# Altium integrated library Maxim Communication Transceiver.IntLib: 302 symbols (part 1 of 7)
Pins are listed as number, name and electrical type; pins without a type are passive.

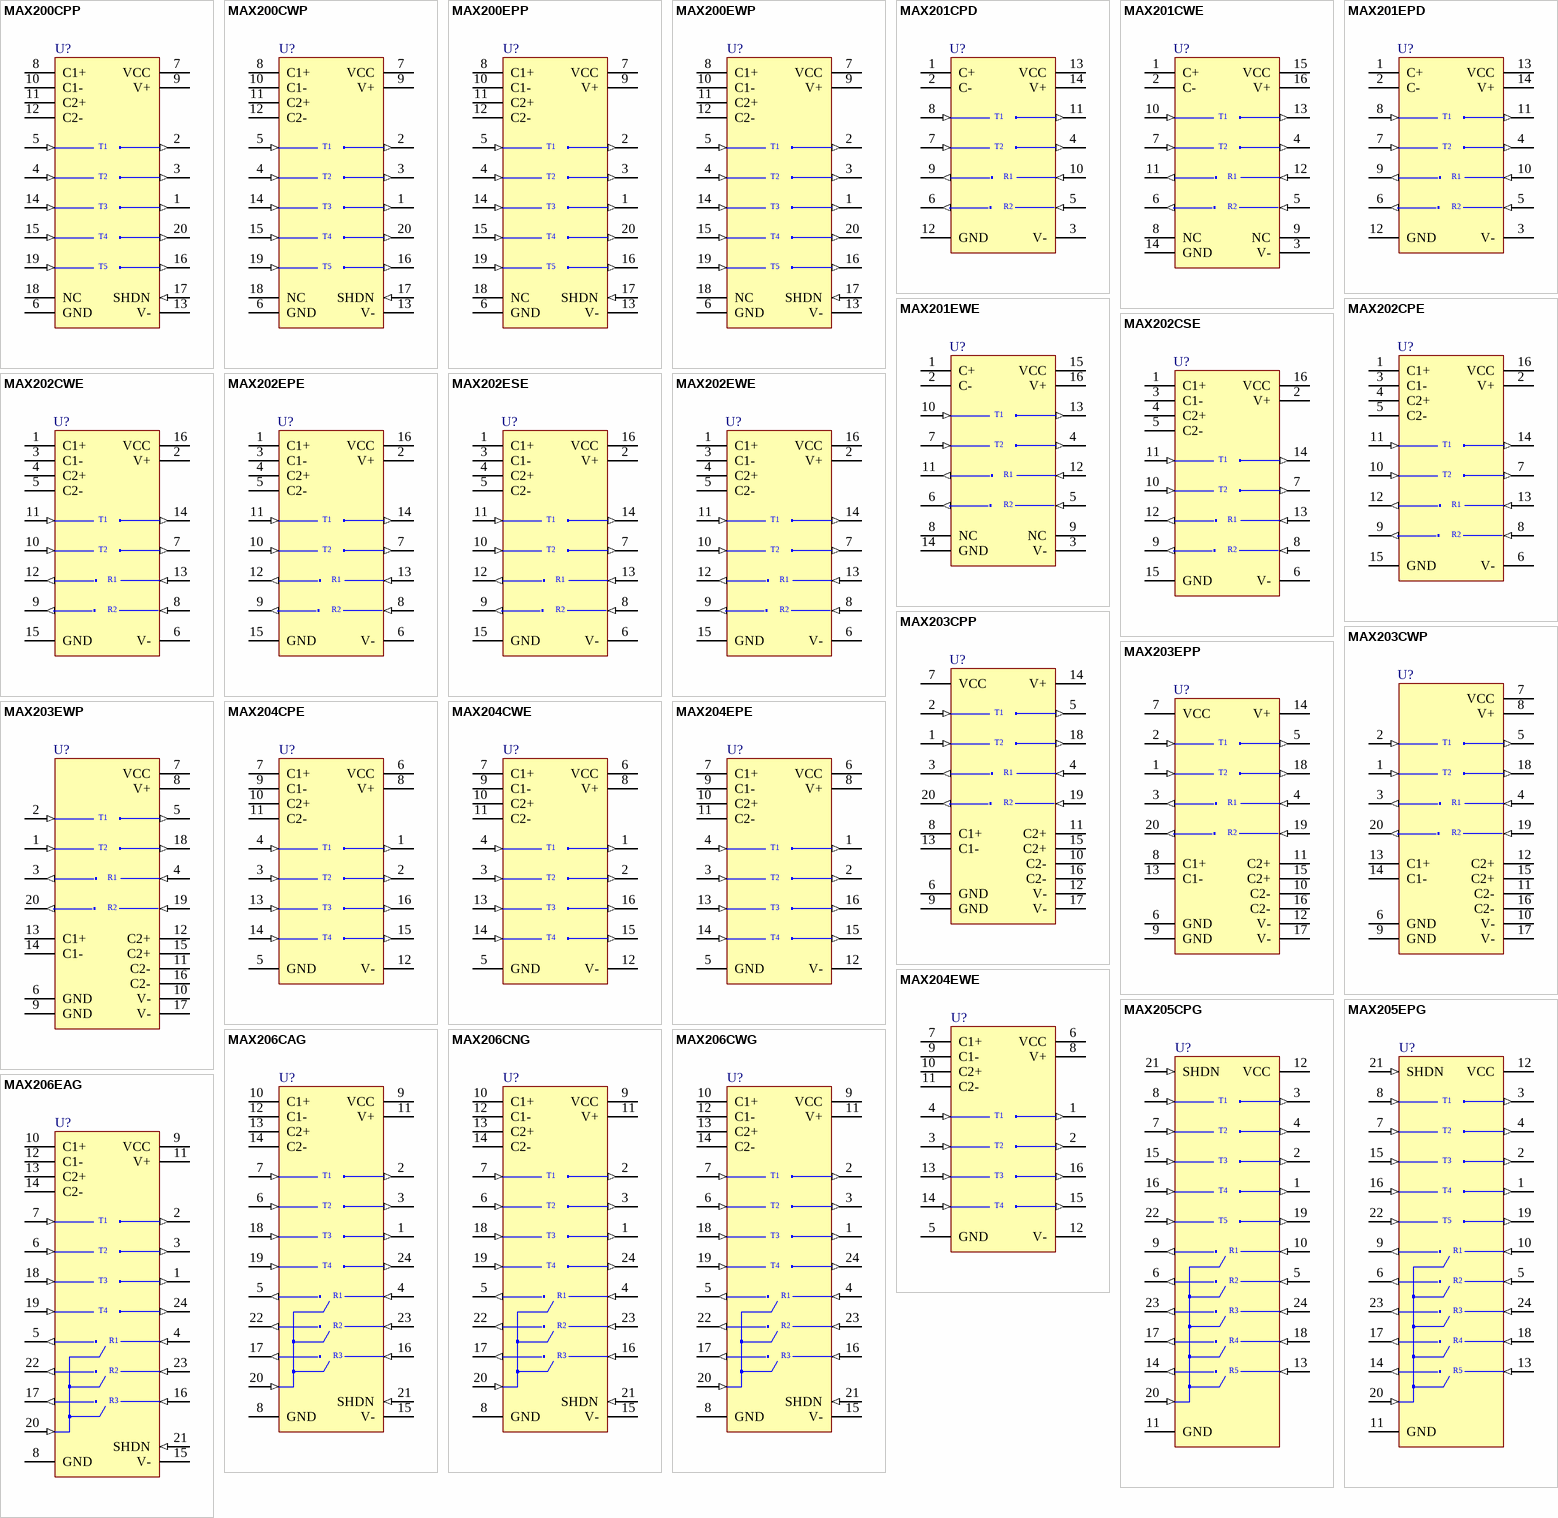
[diagram p0: symbols MAX200CPP to MAX206EAG]

## MAX200CPP
designator U?
+5V RS-232 Transceiver with 0.1µF External Capacitor; Published: 16-Jan-2001; LatestRevisionDate: 29-May-2009; LatestRevisionNote: Component Body Added.; DatasheetVersion: Dec-1996; PackageVersion: RevB, 21-0043; PackageReference: PP20; Publisher: Altium Limited; PackageDescription: DIP, 20-Pin, Row Spacing 7.62 mm, Pitch 2.54 mm; Code_JEDEC: MS-001-AE; ComponentLink1Description: Manufacturer Link; ComponentLink1URL: http://www.maxim-ic.com/; ComponentLink2Description: Datasheet; ComponentLink2URL: http://pdfserv.maxim-ic.com/en/ds/MAX200-MAX213.pdf
footprint PP20 (DIP, 20-Leads, Row Spacing 7.62mm, Pitch 2.54mm, Body 26.16x7.24mm)
3D model PP20 (DIP, 20-Pin, Row Spacing 7.62 mm, Pitch 2.54 mm)
pins: 1 T3OUT (out), 2 T1OUT (out), 3 T2OUT (out), 4 T2IN (in), 5 T1IN (in), 6 GND (power), 7 VCC (power), 8 C1+, 9 V+ (power), 10 C1-, 11 C2+, 12 C2-, 13 V- (power), 14 T3IN (in), 15 T4IN (in), 16 T5OUT (out), 17 SHDN (in), 18 NC, 19 T5IN (in), 20 T4OUT (out)
text: T1; T2; T3; T4; T5

## MAX200CWP
designator U?
+5V RS-232 Transceiver with 0.1µF External Capacitor; Published: 16-Jan-2001; LatestRevisionDate: 13-Apr-2006; LatestRevisionNote: IPC-7351 Footprint Added.; DatasheetVersion: Dec-1996; PackageReference: WSO20; Publisher: Altium Limited; PackageDescription: 20-Pin Small Outline Integrated Circuit 1.27 mm Pitch; Code_JEDEC: MS-013-AC; Code_IPC: SOIC127P1030-20; ComponentLink1Description: Manufacturer Link; ComponentLink1URL: http://www.maxim-ic.com/; ComponentLink2Description: Datasheet; ComponentLink2URL: http://pdfserv.maxim-ic.com/en/ds/MAX200-MAX213.pdf
footprint WSO20_N (SOIC, 20-Leads, Body 12.8x7.5mm, Pitch 1.27mm, IPC Medium Density)
footprint WSO20_L (SOIC, 20-Leads, Body 12.8x7.5mm, Pitch 1.27mm, IPC High Density)
footprint WSO20_M (SOIC, 20-Leads, Body 12.8x7.5mm, Pitch 1.27mm, IPC Low Density)
3D model WSO20 (20-Pin Small Outline Integrated Circuit 1.27 mm Pitch)
pins: 1 T3OUT (out), 2 T1OUT (out), 3 T2OUT (out), 4 T2IN (in), 5 T1IN (in), 6 GND (power), 7 VCC (power), 8 C1+, 9 V+ (power), 10 C1-, 11 C2+, 12 C2-, 13 V- (power), 14 T3IN (in), 15 T4IN (in), 16 T5OUT (out), 17 SHDN (in), 18 NC, 19 T5IN (in), 20 T4OUT (out)
text: T1; T2; T3; T4; T5

## MAX200EPP
designator U?
+5V RS-232 Transceiver with 0.1µF External Capacitor; Published: 16-Jan-2001; LatestRevisionDate: 29-May-2009; LatestRevisionNote: Component Body Added.; DatasheetVersion: Dec-1996; PackageVersion: RevB, 21-0043; PackageReference: PP20; Publisher: Altium Limited; PackageDescription: DIP, 20-Pin, Row Spacing 7.62 mm, Pitch 2.54 mm; Code_JEDEC: MS-001-AE; ComponentLink1Description: Manufacturer Link; ComponentLink1URL: http://www.maxim-ic.com/; ComponentLink2Description: Datasheet; ComponentLink2URL: http://pdfserv.maxim-ic.com/en/ds/MAX200-MAX213.pdf
footprint PP20 (DIP, 20-Leads, Row Spacing 7.62mm, Pitch 2.54mm, Body 26.16x7.24mm)
3D model PP20 (DIP, 20-Pin, Row Spacing 7.62 mm, Pitch 2.54 mm)
pins: 1 T3OUT (out), 2 T1OUT (out), 3 T2OUT (out), 4 T2IN (in), 5 T1IN (in), 6 GND (power), 7 VCC (power), 8 C1+, 9 V+ (power), 10 C1-, 11 C2+, 12 C2-, 13 V- (power), 14 T3IN (in), 15 T4IN (in), 16 T5OUT (out), 17 SHDN (in), 18 NC, 19 T5IN (in), 20 T4OUT (out)
text: T1; T2; T3; T4; T5

## MAX200EWP
designator U?
+5V RS-232 Transceiver with 0.1µF External Capacitor; Published: 16-Jan-2001; LatestRevisionDate: 13-Apr-2006; LatestRevisionNote: IPC-7351 Footprint Added.; DatasheetVersion: Dec-1996; PackageReference: WSO20; Publisher: Altium Limited; PackageDescription: 20-Pin Small Outline Integrated Circuit 1.27 mm Pitch; Code_JEDEC: MS-013-AC; Code_IPC: SOIC127P1030-20; ComponentLink1Description: Manufacturer Link; ComponentLink1URL: http://www.maxim-ic.com/; ComponentLink2Description: Datasheet; ComponentLink2URL: http://pdfserv.maxim-ic.com/en/ds/MAX200-MAX213.pdf
footprint WSO20_N (SOIC, 20-Leads, Body 12.8x7.5mm, Pitch 1.27mm, IPC Medium Density)
footprint WSO20_L (SOIC, 20-Leads, Body 12.8x7.5mm, Pitch 1.27mm, IPC High Density)
footprint WSO20_M (SOIC, 20-Leads, Body 12.8x7.5mm, Pitch 1.27mm, IPC Low Density)
3D model WSO20 (20-Pin Small Outline Integrated Circuit 1.27 mm Pitch)
pins: 1 T3OUT (out), 2 T1OUT (out), 3 T2OUT (out), 4 T2IN (in), 5 T1IN (in), 6 GND (power), 7 VCC (power), 8 C1+, 9 V+ (power), 10 C1-, 11 C2+, 12 C2-, 13 V- (power), 14 T3IN (in), 15 T4IN (in), 16 T5OUT (out), 17 SHDN (in), 18 NC, 19 T5IN (in), 20 T4OUT (out)
text: T1; T2; T3; T4; T5

## MAX201CPD
designator U?
+5V RS-232 Transceiver with 0.1µF External Capacitor; Published: 16-Jan-2001; LatestRevisionDate: 29-May-2009; LatestRevisionNote: Component Body Added.; DatasheetVersion: Dec-1996; PackageVersion: RevB, 21-0043; PackageReference: PD14; Publisher: Altium Limited; PackageDescription: DIP, 14-Pin, Row Spacing 7.62 mm, Pitch 2.54 mm; Code_JEDEC: MS-001-AC; ComponentLink1Description: Manufacturer Link; ComponentLink1URL: http://www.maxim-ic.com/; ComponentLink2Description: Datasheet; ComponentLink2URL: http://pdfserv.maxim-ic.com/en/ds/MAX200-MAX213.pdf
footprint PD14 (DIP, 14-Leads, Row Spacing 7.62mm, Pitch 2.54mm, Body 19.05x7.24mm)
3D model PD14 (DIP, 14-Pin, Row Spacing 7.62 mm, Pitch 2.54 mm)
pins: 1 C+, 2 C-, 3 V- (power), 4 T2OUT (out), 5 R2IN (in), 6 R2OUT (out), 7 T2IN (in), 8 T1IN (in), 9 R1OUT (out), 10 R1IN (in), 11 T1OUT (out), 12 GND (power), 13 VCC (power), 14 V+ (power)
text: T1; T2; R1; R2

## MAX201CWE
designator U?
+5V RS-232 Transceiver with 0.1µF External Capacitor; Published: 16-Jan-2001; LatestRevisionDate: 13-Apr-2006; LatestRevisionNote: IPC-7351 Footprint Added.; DatasheetVersion: Dec-1996; PackageReference: WSO16; Publisher: Altium Limited; PackageDescription: 16-Pin Small Outline Integrated Circuit 1.27 mm Pitch; Code_JEDEC: MS-013-AA; Code_IPC: SOIC127P1030-16; ComponentLink1Description: Manufacturer Link; ComponentLink1URL: http://www.maxim-ic.com/; ComponentLink2Description: Datasheet; ComponentLink2URL: http://pdfserv.maxim-ic.com/en/ds/MAX200-MAX213.pdf
footprint WSO16_N (SOIC, 16-Leads, Body 10.3x7.5mm, Pitch 1.27mm, IPC Medium Density)
footprint WSO16_L (SOIC, 16-Leads, Body 10.3x7.5mm, Pitch 1.27mm, IPC High Density)
footprint WSO16_M (SOIC, 16-Leads, Body 10.3x7.5mm, Pitch 1.27mm, IPC Low Density)
3D model WSO16 (16-Pin Small Outline Integrated Circuit 1.27 mm Pitch)
pins: 1 C+, 2 C-, 3 V- (power), 4 T2OUT (out), 5 R2IN (in), 6 R2OUT (out), 7 T2IN (in), 8 NC, 9 NC, 10 T1IN (in), 11 R1OUT (out), 12 R1IN (in), 13 T1OUT (out), 14 GND (power), 15 VCC (power), 16 V+ (power)
text: T1; T2; R1; R2

## MAX201EPD
designator U?
+5V RS-232 Transceiver with 0.1µF External Capacitor; Published: 16-Jan-2001; LatestRevisionDate: 29-May-2009; LatestRevisionNote: Component Body Added.; DatasheetVersion: Dec-1996; PackageVersion: RevB, 21-0043; PackageReference: PD14; Publisher: Altium Limited; PackageDescription: DIP, 14-Pin, Row Spacing 7.62 mm, Pitch 2.54 mm; Code_JEDEC: MS-001-AC; ComponentLink1Description: Manufacturer Link; ComponentLink1URL: http://www.maxim-ic.com/; ComponentLink2Description: Datasheet; ComponentLink2URL: http://pdfserv.maxim-ic.com/en/ds/MAX200-MAX213.pdf
footprint PD14 (DIP, 14-Leads, Row Spacing 7.62mm, Pitch 2.54mm, Body 19.05x7.24mm)
3D model PD14 (DIP, 14-Pin, Row Spacing 7.62 mm, Pitch 2.54 mm)
pins: 1 C+, 2 C-, 3 V- (power), 4 T2OUT (out), 5 R2IN (in), 6 R2OUT (out), 7 T2IN (in), 8 T1IN (in), 9 R1OUT (out), 10 R1IN (in), 11 T1OUT (out), 12 GND (power), 13 VCC (power), 14 V+ (power)
text: T1; T2; R1; R2

## MAX201EWE
designator U?
+5V RS-232 Transceiver with 0.1µF External Capacitor; Published: 16-Jan-2001; LatestRevisionDate: 13-Apr-2006; LatestRevisionNote: IPC-7351 Footprint Added.; DatasheetVersion: Dec-1996; PackageReference: WSO16; Publisher: Altium Limited; PackageDescription: 16-Pin Small Outline Integrated Circuit 1.27 mm Pitch; Code_JEDEC: MS-013-AA; Code_IPC: SOIC127P1030-16; ComponentLink1Description: Manufacturer Link; ComponentLink1URL: http://www.maxim-ic.com/; ComponentLink2Description: Datasheet; ComponentLink2URL: http://pdfserv.maxim-ic.com/en/ds/MAX200-MAX213.pdf
footprint WSO16_N (SOIC, 16-Leads, Body 10.3x7.5mm, Pitch 1.27mm, IPC Medium Density)
footprint WSO16_L (SOIC, 16-Leads, Body 10.3x7.5mm, Pitch 1.27mm, IPC High Density)
footprint WSO16_M (SOIC, 16-Leads, Body 10.3x7.5mm, Pitch 1.27mm, IPC Low Density)
3D model WSO16 (16-Pin Small Outline Integrated Circuit 1.27 mm Pitch)
pins: 1 C+, 2 C-, 3 V- (power), 4 T2OUT (out), 5 R2IN (in), 6 R2OUT (out), 7 T2IN (in), 8 NC, 9 NC, 10 T1IN (in), 11 R1OUT (out), 12 R1IN (in), 13 T1OUT (out), 14 GND (power), 15 VCC (power), 16 V+ (power)
text: T1; T2; R1; R2

## MAX202CPE
designator U?
+5V RS-232 Transceiver with 0.1µF External Capacitor; Published: 16-Jan-2001; LatestRevisionDate: 29-May-2009; LatestRevisionNote: Component Body Added.; DatasheetVersion: Dec-1996; PackageVersion: Aug-2000; PackageReference: PE16; Publisher: Altium Limited; PackageDescription: DIP, 16-Pin, Row Spacing 7.62 mm, Pitch 2.54 mm; Code_JEDEC: MS-001-BB; ComponentLink1Description: Manufacturer Link; ComponentLink1URL: http://www.maxim-ic.com/; ComponentLink2Description: Datasheet; ComponentLink2URL: http://pdfserv.maxim-ic.com/en/ds/MAX200-MAX213.pdf
footprint PE16 (DIP, 16-Leads, Row Spacing 7.62mm, Pitch 2.54mm, Body 19.18x7.24mm)
3D model PE16 (DIP, 16-Pin, Row Spacing 7.62 mm, Pitch 2.54 mm)
pins: 1 C1+, 2 V+ (power), 3 C1-, 4 C2+, 5 C2-, 6 V- (power), 7 T2OUT (out), 8 R2IN (in), 9 R2OUT (out), 10 T2IN (in), 11 T1IN (in), 12 R1OUT (out), 13 R1IN (in), 14 T1OUT (out), 15 GND (power), 16 VCC (power)
text: T1; T2; R1; R2

## MAX202CSE
designator U?
+5V RS-232 Transceiver with 0.1µF External Capacitor; Published: 16-Jan-2001; LatestRevisionDate: 13-Apr-2006; LatestRevisionNote: IPC-7351 Footprint Added.; DatasheetVersion: Dec-1996; PackageReference: NSO16; Publisher: Altium Limited; PackageDescription: 16-Pin Small Outline Integrated Circuit 1.27 mm Pitch; Code_JEDEC: MS-012-AC; Code_IPC: SOIC127P600-16; ComponentLink1Description: Manufacturer Link; ComponentLink1URL: http://www.maxim-ic.com/; ComponentLink2Description: Datasheet; ComponentLink2URL: http://pdfserv.maxim-ic.com/en/ds/MAX200-MAX213.pdf
footprint NSO16_N (SOIC, 16-Leads, Body 9.9x3.9mm, Pitch 1.27mm, IPC Medium Density)
footprint NSO16_L (SOIC, 16-Leads, Body 9.9x3.9mm, Pitch 1.27mm, IPC High Density)
footprint NSO16_M (SOIC, 16-Leads, Body 9.9x3.9mm, Pitch 1.27mm, IPC Low Density)
3D model NSO16 (16-Pin Small Outline Integrated Circuit 1.27 mm Pitch)
pins: 1 C1+, 2 V+ (power), 3 C1-, 4 C2+, 5 C2-, 6 V- (power), 7 T2OUT (out), 8 R2IN (in), 9 R2OUT (out), 10 T2IN (in), 11 T1IN (in), 12 R1OUT (out), 13 R1IN (in), 14 T1OUT (out), 15 GND (power), 16 VCC (power)
text: T1; T2; R1; R2

## MAX202CWE
designator U?
+5V RS-232 Transceiver with 0.1µF External Capacitor; Published: 16-Jan-2001; LatestRevisionDate: 13-Apr-2006; LatestRevisionNote: IPC-7351 Footprint Added.; DatasheetVersion: Dec-1996; PackageReference: WSO16; Publisher: Altium Limited; PackageDescription: 16-Pin Small Outline Integrated Circuit 1.27 mm Pitch; Code_JEDEC: MS-013-AA; Code_IPC: SOIC127P1030-16; ComponentLink1Description: Manufacturer Link; ComponentLink1URL: http://www.maxim-ic.com/; ComponentLink2Description: Datasheet; ComponentLink2URL: http://pdfserv.maxim-ic.com/en/ds/MAX200-MAX213.pdf
footprint WSO16_N (SOIC, 16-Leads, Body 10.3x7.5mm, Pitch 1.27mm, IPC Medium Density)
footprint WSO16_L (SOIC, 16-Leads, Body 10.3x7.5mm, Pitch 1.27mm, IPC High Density)
footprint WSO16_M (SOIC, 16-Leads, Body 10.3x7.5mm, Pitch 1.27mm, IPC Low Density)
3D model WSO16 (16-Pin Small Outline Integrated Circuit 1.27 mm Pitch)
pins: 1 C1+, 2 V+ (power), 3 C1-, 4 C2+, 5 C2-, 6 V- (power), 7 T2OUT (out), 8 R2IN (in), 9 R2OUT (out), 10 T2IN (in), 11 T1IN (in), 12 R1OUT (out), 13 R1IN (in), 14 T1OUT (out), 15 GND (power), 16 VCC (power)
text: T1; T2; R1; R2

## MAX202EPE
designator U?
+5V RS-232 Transceiver with 0.1µF External Capacitor; Published: 16-Jan-2001; LatestRevisionDate: 29-May-2009; LatestRevisionNote: Component Body Added.; DatasheetVersion: Dec-1996; PackageVersion: Aug-2000; PackageReference: PE16; Publisher: Altium Limited; PackageDescription: DIP, 16-Pin, Row Spacing 7.62 mm, Pitch 2.54 mm; Code_JEDEC: MS-001-BB; ComponentLink1Description: Manufacturer Link; ComponentLink1URL: http://www.maxim-ic.com/; ComponentLink2Description: Datasheet; ComponentLink2URL: http://pdfserv.maxim-ic.com/en/ds/MAX200-MAX213.pdf
footprint PE16 (DIP, 16-Leads, Row Spacing 7.62mm, Pitch 2.54mm, Body 19.18x7.24mm)
3D model PE16 (DIP, 16-Pin, Row Spacing 7.62 mm, Pitch 2.54 mm)
pins: 1 C1+, 2 V+ (power), 3 C1-, 4 C2+, 5 C2-, 6 V- (power), 7 T2OUT (out), 8 R2IN (in), 9 R2OUT (out), 10 T2IN (in), 11 T1IN (in), 12 R1OUT (out), 13 R1IN (in), 14 T1OUT (out), 15 GND (power), 16 VCC (power)
text: T1; T2; R1; R2

## MAX202ESE
designator U?
+5V RS-232 Transceiver with 0.1µF External Capacitor; Published: 16-Jan-2001; LatestRevisionDate: 13-Apr-2006; LatestRevisionNote: IPC-7351 Footprint Added.; DatasheetVersion: Dec-1996; PackageReference: NSO16; Publisher: Altium Limited; PackageDescription: 16-Pin Small Outline Integrated Circuit 1.27 mm Pitch; Code_JEDEC: MS-012-AC; Code_IPC: SOIC127P600-16; ComponentLink1Description: Manufacturer Link; ComponentLink1URL: http://www.maxim-ic.com/; ComponentLink2Description: Datasheet; ComponentLink2URL: http://pdfserv.maxim-ic.com/en/ds/MAX200-MAX213.pdf
footprint NSO16_N (SOIC, 16-Leads, Body 9.9x3.9mm, Pitch 1.27mm, IPC Medium Density)
footprint NSO16_L (SOIC, 16-Leads, Body 9.9x3.9mm, Pitch 1.27mm, IPC High Density)
footprint NSO16_M (SOIC, 16-Leads, Body 9.9x3.9mm, Pitch 1.27mm, IPC Low Density)
3D model NSO16 (16-Pin Small Outline Integrated Circuit 1.27 mm Pitch)
pins: 1 C1+, 2 V+ (power), 3 C1-, 4 C2+, 5 C2-, 6 V- (power), 7 T2OUT (out), 8 R2IN (in), 9 R2OUT (out), 10 T2IN (in), 11 T1IN (in), 12 R1OUT (out), 13 R1IN (in), 14 T1OUT (out), 15 GND (power), 16 VCC (power)
text: T1; T2; R1; R2

## MAX202EWE
designator U?
+5V RS-232 Transceiver with 0.1µF External Capacitor; Published: 16-Jan-2001; LatestRevisionDate: 13-Apr-2006; LatestRevisionNote: IPC-7351 Footprint Added.; DatasheetVersion: Dec-1996; PackageReference: WSO16; Publisher: Altium Limited; PackageDescription: 16-Pin Small Outline Integrated Circuit 1.27 mm Pitch; Code_JEDEC: MS-013-AA; Code_IPC: SOIC127P1030-16; ComponentLink1Description: Manufacturer Link; ComponentLink1URL: http://www.maxim-ic.com/; ComponentLink2Description: Datasheet; ComponentLink2URL: http://pdfserv.maxim-ic.com/en/ds/MAX200-MAX213.pdf
footprint WSO16_N (SOIC, 16-Leads, Body 10.3x7.5mm, Pitch 1.27mm, IPC Medium Density)
footprint WSO16_L (SOIC, 16-Leads, Body 10.3x7.5mm, Pitch 1.27mm, IPC High Density)
footprint WSO16_M (SOIC, 16-Leads, Body 10.3x7.5mm, Pitch 1.27mm, IPC Low Density)
3D model WSO16 (16-Pin Small Outline Integrated Circuit 1.27 mm Pitch)
pins: 1 C1+, 2 V+ (power), 3 C1-, 4 C2+, 5 C2-, 6 V- (power), 7 T2OUT (out), 8 R2IN (in), 9 R2OUT (out), 10 T2IN (in), 11 T1IN (in), 12 R1OUT (out), 13 R1IN (in), 14 T1OUT (out), 15 GND (power), 16 VCC (power)
text: T1; T2; R1; R2

## MAX203CPP
designator U?
+5V RS-232 Transceiver with 0.1µF External Capacitor; Published: 16-Jan-2001; LatestRevisionDate: 29-May-2009; LatestRevisionNote: Component Body Added.; DatasheetVersion: Dec-1996; PackageVersion: RevB, 21-0043; PackageReference: PP20; Publisher: Altium Limited; PackageDescription: DIP, 20-Pin, Row Spacing 7.62 mm, Pitch 2.54 mm; Code_JEDEC: MS-001-AE; ComponentLink1Description: Manufacturer Link; ComponentLink1URL: http://www.maxim-ic.com/; ComponentLink2Description: Datasheet; ComponentLink2URL: http://pdfserv.maxim-ic.com/en/ds/MAX200-MAX213.pdf
footprint PP20 (DIP, 20-Leads, Row Spacing 7.62mm, Pitch 2.54mm, Body 26.16x7.24mm)
3D model PP20 (DIP, 20-Pin, Row Spacing 7.62 mm, Pitch 2.54 mm)
pins: 1 T2IN (in), 2 T1IN (in), 3 R1OUT (out), 4 R1IN (in), 5 T1OUT (out), 6 GND (power), 7 VCC (power), 8 C1+, 9 GND (power), 10 C2-, 11 C2+, 12 V- (power), 13 C1-, 14 V+ (power), 15 C2+, 16 C2-, 17 V- (power), 18 T2OUT (out), 19 R2IN (in), 20 R2OUT (out)
text: T1; T2; R1; R2

## MAX203CWP
designator U?
+5V RS-232 Transceiver with 0.1µF External Capacitor; Published: 16-Jan-2001; LatestRevisionDate: 13-Apr-2006; LatestRevisionNote: IPC-7351 Footprint Added.; DatasheetVersion: Dec-1996; PackageReference: WSO20; Publisher: Altium Limited; PackageDescription: 20-Pin Small Outline Integrated Circuit 1.27 mm Pitch; Code_JEDEC: MS-013-AC; Code_IPC: SOIC127P1030-20; ComponentLink1Description: Manufacturer Link; ComponentLink1URL: http://www.maxim-ic.com/; ComponentLink2Description: Datasheet; ComponentLink2URL: http://pdfserv.maxim-ic.com/en/ds/MAX200-MAX213.pdf
footprint WSO20_N (SOIC, 20-Leads, Body 12.8x7.5mm, Pitch 1.27mm, IPC Medium Density)
footprint WSO20_L (SOIC, 20-Leads, Body 12.8x7.5mm, Pitch 1.27mm, IPC High Density)
footprint WSO20_M (SOIC, 20-Leads, Body 12.8x7.5mm, Pitch 1.27mm, IPC Low Density)
3D model WSO20 (20-Pin Small Outline Integrated Circuit 1.27 mm Pitch)
pins: 1 T2IN (in), 2 T1IN (in), 3 R1OUT (out), 4 R1IN (in), 5 T1OUT (out), 6 GND (power), 7 VCC (power), 8 V+, 9 GND (power), 10 V-, 11 C2-, 12 C2+ (power), 13 C1+, 14 C1- (power), 15 C2+, 16 C2-, 17 V- (power), 18 T2OUT (out), 19 R2IN (in), 20 R2OUT (out)
text: T1; T2; R1; R2

## MAX203EPP
designator U?
+5V RS-232 Transceiver with 0.1µF External Capacitor; Published: 16-Jan-2001; LatestRevisionDate: 29-May-2009; LatestRevisionNote: Component Body Added.; DatasheetVersion: Dec-1996; PackageVersion: RevB, 21-0043; PackageReference: PP20; Publisher: Altium Limited; PackageDescription: DIP, 20-Pin, Row Spacing 7.62 mm, Pitch 2.54 mm; Code_JEDEC: MS-001-AE; ComponentLink1Description: Manufacturer Link; ComponentLink1URL: http://www.maxim-ic.com/; ComponentLink2Description: Datasheet; ComponentLink2URL: http://pdfserv.maxim-ic.com/en/ds/MAX200-MAX213.pdf
footprint PP20 (DIP, 20-Leads, Row Spacing 7.62mm, Pitch 2.54mm, Body 26.16x7.24mm)
3D model PP20 (DIP, 20-Pin, Row Spacing 7.62 mm, Pitch 2.54 mm)
pins: 1 T2IN (in), 2 T1IN (in), 3 R1OUT (out), 4 R1IN (in), 5 T1OUT (out), 6 GND (power), 7 VCC (power), 8 C1+, 9 GND (power), 10 C2-, 11 C2+, 12 V- (power), 13 C1-, 14 V+ (power), 15 C2+, 16 C2-, 17 V- (power), 18 T2OUT (out), 19 R2IN (in), 20 R2OUT (out)
text: T1; T2; R1; R2

## MAX203EWP
designator U?
+5V RS-232 Transceiver with 0.1µF External Capacitor; Published: 16-Jan-2001; LatestRevisionDate: 13-Apr-2006; LatestRevisionNote: IPC-7351 Footprint Added.; DatasheetVersion: Dec-1996; PackageReference: WSO20; Publisher: Altium Limited; PackageDescription: 20-Pin Small Outline Integrated Circuit 1.27 mm Pitch; Code_JEDEC: MS-013-AC; Code_IPC: SOIC127P1030-20; ComponentLink1Description: Manufacturer Link; ComponentLink1URL: http://www.maxim-ic.com/; ComponentLink2Description: Datasheet; ComponentLink2URL: http://pdfserv.maxim-ic.com/en/ds/MAX200-MAX213.pdf
footprint WSO20_N (SOIC, 20-Leads, Body 12.8x7.5mm, Pitch 1.27mm, IPC Medium Density)
footprint WSO20_L (SOIC, 20-Leads, Body 12.8x7.5mm, Pitch 1.27mm, IPC High Density)
footprint WSO20_M (SOIC, 20-Leads, Body 12.8x7.5mm, Pitch 1.27mm, IPC Low Density)
3D model WSO20 (20-Pin Small Outline Integrated Circuit 1.27 mm Pitch)
pins: 1 T2IN (in), 2 T1IN (in), 3 R1OUT (out), 4 R1IN (in), 5 T1OUT (out), 6 GND (power), 7 VCC (power), 8 V+, 9 GND (power), 10 V-, 11 C2-, 12 C2+ (power), 13 C1+, 14 C1- (power), 15 C2+, 16 C2-, 17 V- (power), 18 T2OUT (out), 19 R2IN (in), 20 R2OUT (out)
text: T1; T2; R1; R2

## MAX204CPE
designator U?
+5V RS-232 Transceiver with 0.1µF External Capacitor; Published: 16-Jan-2001; LatestRevisionDate: 29-May-2009; LatestRevisionNote: Component Body Added.; DatasheetVersion: Dec-1996; PackageVersion: Aug-2000; PackageReference: PE16; Publisher: Altium Limited; PackageDescription: DIP, 16-Pin, Row Spacing 7.62 mm, Pitch 2.54 mm; Code_JEDEC: MS-001-BB; ComponentLink1Description: Manufacturer Link; ComponentLink1URL: http://www.maxim-ic.com/; ComponentLink2Description: Datasheet; ComponentLink2URL: http://pdfserv.maxim-ic.com/en/ds/MAX200-MAX213.pdf
footprint PE16 (DIP, 16-Leads, Row Spacing 7.62mm, Pitch 2.54mm, Body 19.18x7.24mm)
3D model PE16 (DIP, 16-Pin, Row Spacing 7.62 mm, Pitch 2.54 mm)
pins: 1 T1OUT (out), 2 T2OUT (out), 3 T2IN (in), 4 T1IN (in), 5 GND (power), 6 VCC (power), 7 C1+, 8 V+ (power), 9 C1-, 10 C2+, 11 C2-, 12 V- (power), 13 T3IN (in), 14 T4IN (in), 15 T4OUT (out), 16 T3OUT (out)
text: T1; T2; T3; T4

## MAX204CWE
designator U?
+5V RS-232 Transceiver with 0.1µF External Capacitor; Published: 16-Jan-2001; LatestRevisionDate: 13-Apr-2006; LatestRevisionNote: IPC-7351 Footprint Added.; DatasheetVersion: Dec-1996; PackageReference: WSO16; Publisher: Altium Limited; PackageDescription: 16-Pin Small Outline Integrated Circuit 1.27 mm Pitch; Code_JEDEC: MS-013-AA; Code_IPC: SOIC127P1030-16; ComponentLink1Description: Manufacturer Link; ComponentLink1URL: http://www.maxim-ic.com/; ComponentLink2Description: Datasheet; ComponentLink2URL: http://pdfserv.maxim-ic.com/en/ds/MAX200-MAX213.pdf
footprint WSO16_N (SOIC, 16-Leads, Body 10.3x7.5mm, Pitch 1.27mm, IPC Medium Density)
footprint WSO16_L (SOIC, 16-Leads, Body 10.3x7.5mm, Pitch 1.27mm, IPC High Density)
footprint WSO16_M (SOIC, 16-Leads, Body 10.3x7.5mm, Pitch 1.27mm, IPC Low Density)
3D model WSO16 (16-Pin Small Outline Integrated Circuit 1.27 mm Pitch)
pins: 1 T1OUT (out), 2 T2OUT (out), 3 T2IN (in), 4 T1IN (in), 5 GND (power), 6 VCC (power), 7 C1+, 8 V+ (power), 9 C1-, 10 C2+, 11 C2-, 12 V- (power), 13 T3IN (in), 14 T4IN (in), 15 T4OUT (out), 16 T3OUT (out)
text: T1; T2; T3; T4

## MAX204EPE
designator U?
+5V RS-232 Transceiver with 0.1µF External Capacitor; Published: 16-Jan-2001; LatestRevisionDate: 29-May-2009; LatestRevisionNote: Component Body Added.; DatasheetVersion: Dec-1996; PackageVersion: Aug-2000; PackageReference: PE16; Publisher: Altium Limited; PackageDescription: DIP, 16-Pin, Row Spacing 7.62 mm, Pitch 2.54 mm; Code_JEDEC: MS-001-BB; ComponentLink1Description: Manufacturer Link; ComponentLink1URL: http://www.maxim-ic.com/; ComponentLink2Description: Datasheet; ComponentLink2URL: http://pdfserv.maxim-ic.com/en/ds/MAX200-MAX213.pdf
footprint PE16 (DIP, 16-Leads, Row Spacing 7.62mm, Pitch 2.54mm, Body 19.18x7.24mm)
3D model PE16 (DIP, 16-Pin, Row Spacing 7.62 mm, Pitch 2.54 mm)
pins: 1 T1OUT (out), 2 T2OUT (out), 3 T2IN (in), 4 T1IN (in), 5 GND (power), 6 VCC (power), 7 C1+, 8 V+ (power), 9 C1-, 10 C2+, 11 C2-, 12 V- (power), 13 T3IN (in), 14 T4IN (in), 15 T4OUT (out), 16 T3OUT (out)
text: T1; T2; T3; T4

## MAX204EWE
designator U?
+5V RS-232 Transceiver with 0.1µF External Capacitor; Published: 16-Jan-2001; LatestRevisionDate: 13-Apr-2006; LatestRevisionNote: IPC-7351 Footprint Added.; DatasheetVersion: Dec-1996; PackageReference: WSO16; Publisher: Altium Limited; PackageDescription: 16-Pin Small Outline Integrated Circuit 1.27 mm Pitch; Code_JEDEC: MS-013-AA; Code_IPC: SOIC127P1030-16; ComponentLink1Description: Manufacturer Link; ComponentLink1URL: http://www.maxim-ic.com/; ComponentLink2Description: Datasheet; ComponentLink2URL: http://pdfserv.maxim-ic.com/en/ds/MAX200-MAX213.pdf
footprint WSO16_N (SOIC, 16-Leads, Body 10.3x7.5mm, Pitch 1.27mm, IPC Medium Density)
footprint WSO16_L (SOIC, 16-Leads, Body 10.3x7.5mm, Pitch 1.27mm, IPC High Density)
footprint WSO16_M (SOIC, 16-Leads, Body 10.3x7.5mm, Pitch 1.27mm, IPC Low Density)
3D model WSO16 (16-Pin Small Outline Integrated Circuit 1.27 mm Pitch)
pins: 1 T1OUT (out), 2 T2OUT (out), 3 T2IN (in), 4 T1IN (in), 5 GND (power), 6 VCC (power), 7 C1+, 8 V+ (power), 9 C1-, 10 C2+, 11 C2-, 12 V- (power), 13 T3IN (in), 14 T4IN (in), 15 T4OUT (out), 16 T3OUT (out)
text: T1; T2; T3; T4

## MAX205CPG
designator U?
+5V RS-232 Transceiver with 0.1µF External Capacitor; Published: 16-Jan-2001; LatestRevisionDate: 29-May-2009; LatestRevisionNote: Component Body Added.; DatasheetVersion: Dec-1996; PackageVersion: 21-0044 A; PackageReference: PG24; Publisher: Altium Limited; PackageDescription: DIP, 24-Pin, Row Spacing 15.24 mm, Pitch 2.54 mm; ComponentLink1Description: Manufacturer Link; ComponentLink1URL: http://www.maxim-ic.com/; ComponentLink2Description: Datasheet; ComponentLink2URL: http://pdfserv.maxim-ic.com/en/ds/MAX200-MAX213.pdf
footprint PG24 (DIP, 24-Leads, Row Spacing 15.24mm, Pitch 2.54mm, Body 31.75x13.98mm)
3D model PG24 (DIP, 24-Pin, Row Spacing 15.24 mm, Pitch 2.54 mm)
pins: 1 T4OUT (out), 2 T3OUT (out), 3 T1OUT (out), 4 T2OUT (out), 5 R2IN (in), 6 R2OUT (out), 7 T2IN (in), 8 T1IN (in), 9 R1OUT (out), 10 R1IN (in), 11 GND (power), 12 VCC (power), 13 R5IN (in), 14 R5OUT (out), 15 T3IN (in), 16 T4IN (in), 17 R4OUT (out), 18 R4IN (in), 19 T5OUT (out), 20 ~{EN} (in), 21 SHDN (in), 22 T5IN (in), 23 R3OUT (out), 24 R3IN (in)
text: T1; T2; T3; T4; T5; R1; R2; R3; R4; R5

## MAX205EPG
designator U?
+5V RS-232 Transceiver with 0.1µF External Capacitor; Published: 16-Jan-2001; LatestRevisionDate: 29-May-2009; LatestRevisionNote: Component Body Added.; DatasheetVersion: Dec-1996; PackageVersion: 21-0044 A; PackageReference: PG24; Publisher: Altium Limited; PackageDescription: DIP, 24-Pin, Row Spacing 15.24 mm, Pitch 2.54 mm; ComponentLink1Description: Manufacturer Link; ComponentLink1URL: http://www.maxim-ic.com/; ComponentLink2Description: Datasheet; ComponentLink2URL: http://pdfserv.maxim-ic.com/en/ds/MAX200-MAX213.pdf
footprint PG24 (DIP, 24-Leads, Row Spacing 15.24mm, Pitch 2.54mm, Body 31.75x13.98mm)
3D model PG24 (DIP, 24-Pin, Row Spacing 15.24 mm, Pitch 2.54 mm)
pins: 1 T4OUT (out), 2 T3OUT (out), 3 T1OUT (out), 4 T2OUT (out), 5 R2IN (in), 6 R2OUT (out), 7 T2IN (in), 8 T1IN (in), 9 R1OUT (out), 10 R1IN (in), 11 GND (power), 12 VCC (power), 13 R5IN (in), 14 R5OUT (out), 15 T3IN (in), 16 T4IN (in), 17 R4OUT (out), 18 R4IN (in), 19 T5OUT (out), 20 ~{EN} (in), 21 SHDN (in), 22 T5IN (in), 23 R3OUT (out), 24 R3IN (in)
text: T1; T2; T3; T4; T5; R1; R2; R3; R4; R5

## MAX206CAG
designator U?
+5V RS-232 Transceiver with 0.1µF External Capacitor; Published: 16-Jan-2001; LatestRevisionDate: 29-May-2009; LatestRevisionNote: IPC-7351 Footprint Added.; DatasheetVersion: Dec-1996; PackageVersion: 1996; PackageReference: SSOP24; Publisher: Altium Limited; PackageDescription: 24-Pin Small Outline Package 0.65 mm Pitch; Code_JEDEC: MO-150-AG; Code_IPC: SOP65P780-24; ComponentLink1Description: Manufacturer Link; ComponentLink1URL: http://www.maxim-ic.com/; ComponentLink2Description: Datasheet; ComponentLink2URL: http://pdfserv.maxim-ic.com/en/ds/MAX200-MAX213.pdf
footprint SSOP24_N (SOP, 24-Leads, Body 8.2x5.3mm, Pitch 0.65mm, IPC Medium Density)
footprint SSOP24_L (SOP, 24-Leads, Body 8.2x5.3mm, Pitch 0.65mm, IPC High Density)
footprint SSOP24_M (SOP, 24-Leads, Body 8.2x5.3mm, Pitch 0.65mm, IPC Low Density)
3D model SSOP24 (24-Pin Small Outline Package 0.65 mm Pitch)
pins: 1 T3OUT (out), 2 T1OUT (out), 3 T2OUT (out), 4 R1IN (in), 5 R1OUT (out), 6 T2IN (in), 7 T1IN (in), 8 GND (power), 9 VCC (power), 10 C1+, 11 V+ (power), 12 C1-, 13 C2+, 14 C2-, 15 V- (power), 16 R3IN (in), 17 R3OUT (out), 18 T3IN (in), 19 T4IN (in), 20 ~{EN} (in), 21 SHDN (in), 22 R2OUT (out), 23 R2IN (in), 24 T4OUT (out)
text: T1; T2; T3; T4; R1; R2; R3

## MAX206CNG
designator U?
+5V RS-232 Transceiver with 0.1µF External Capacitor; Published: 16-Jan-2001; LatestRevisionDate: 29-May-2009; LatestRevisionNote: Component Body Added.; DatasheetVersion: Dec-1996; PackageVersion: Aug-2000; PackageReference: NG24; Publisher: Altium Limited; PackageDescription: DIP, 24-Pin, Row Spacing 7.62 mm, Pitch 2.54 mm; Code_JEDEC: MS-001-AF; ComponentLink1Description: Manufacturer Link; ComponentLink1URL: http://www.maxim-ic.com/; ComponentLink2Description: Datasheet; ComponentLink2URL: http://pdfserv.maxim-ic.com/en/ds/MAX200-MAX213.pdf
footprint NG24 (DIP, 24-Leads, Row Spacing 7.62mm, Pitch 2.54mm, Body 30.55x7.24mm)
3D model NG24 (DIP, 24-Pin, Row Spacing 7.62 mm, Pitch 2.54 mm)
pins: 1 T3OUT (out), 2 T1OUT (out), 3 T2OUT (out), 4 R1IN (in), 5 R1OUT (out), 6 T2IN (in), 7 T1IN (in), 8 GND (power), 9 VCC (power), 10 C1+, 11 V+ (power), 12 C1-, 13 C2+, 14 C2-, 15 V- (power), 16 R3IN (in), 17 R3OUT (out), 18 T3IN (in), 19 T4IN (in), 20 ~{EN} (in), 21 SHDN (in), 22 R2OUT (out), 23 R2IN (in), 24 T4OUT (out)
text: T1; T2; T3; T4; R1; R2; R3

## MAX206CWG
designator U?
+5V RS-232 Transceiver with 0.1µF External Capacitor; Published: 16-Jan-2001; LatestRevisionDate: 13-Apr-2006; LatestRevisionNote: IPC-7351 Footprint Added.; DatasheetVersion: Dec-1996; PackageReference: WSO24; Publisher: Altium Limited; PackageDescription: 24-Pin Small Outline Integrated Circuit 1.27 mm Pitch; ComponentLink1Description: Manufacturer Link; ComponentLink1URL: http://www.maxim-ic.com/; ComponentLink2Description: Datasheet; ComponentLink2URL: http://pdfserv.maxim-ic.com/en/ds/MAX200-MAX213.pdf
footprint WSO24_N (SOIC, 24-Leads, Body 15.4x7.5mm, Pitch 1.27mm, IPC Medium Density)
footprint WSO24_L (SOIC, 24-Leads, Body 15.4x7.5mm, Pitch 1.27mm, IPC High Density)
footprint WSO24_M (SOIC, 24-Leads, Body 15.4x7.5mm, Pitch 1.27mm, IPC Low Density)
3D model WSO24 (24-Pin Small Outline Integrated Circuit 1.27 mm Pitch)
pins: 1 T3OUT (out), 2 T1OUT (out), 3 T2OUT (out), 4 R1IN (in), 5 R1OUT (out), 6 T2IN (in), 7 T1IN (in), 8 GND (power), 9 VCC (power), 10 C1+, 11 V+ (power), 12 C1-, 13 C2+, 14 C2-, 15 V- (power), 16 R3IN (in), 17 R3OUT (out), 18 T3IN (in), 19 T4IN (in), 20 ~{EN} (in), 21 SHDN (in), 22 R2OUT (out), 23 R2IN (in), 24 T4OUT (out)
text: T1; T2; T3; T4; R1; R2; R3

## MAX206EAG
designator U?
+5V RS-232 Transceiver with 0.1µF External Capacitor; Published: 16-Jan-2001; LatestRevisionDate: 29-May-2009; LatestRevisionNote: IPC-7351 Footprint Added.; DatasheetVersion: Dec-1996; PackageVersion: 1996; PackageReference: SSOP24; Publisher: Altium Limited; PackageDescription: 24-Pin Small Outline Package 0.65 mm Pitch; Code_JEDEC: MO-150-AG; Code_IPC: SOP65P780-24; ComponentLink1Description: Manufacturer Link; ComponentLink1URL: http://www.maxim-ic.com/; ComponentLink2Description: Datasheet; ComponentLink2URL: http://pdfserv.maxim-ic.com/en/ds/MAX200-MAX213.pdf
footprint SSOP24_N (SOP, 24-Leads, Body 8.2x5.3mm, Pitch 0.65mm, IPC Medium Density)
footprint SSOP24_L (SOP, 24-Leads, Body 8.2x5.3mm, Pitch 0.65mm, IPC High Density)
footprint SSOP24_M (SOP, 24-Leads, Body 8.2x5.3mm, Pitch 0.65mm, IPC Low Density)
3D model SSOP24 (24-Pin Small Outline Package 0.65 mm Pitch)
pins: 1 T3OUT (out), 2 T1OUT (out), 3 T2OUT (out), 4 R1IN (in), 5 R1OUT (out), 6 T2IN (in), 7 T1IN (in), 8 GND (power), 9 VCC (power), 10 C1+, 11 V+ (power), 12 C1-, 13 C2+, 14 C2-, 15 V- (power), 16 R3IN (in), 17 R3OUT (out), 18 T3IN (in), 19 T4IN (in), 20 ~{EN} (in), 21 SHDN (in), 22 R2OUT (out), 23 R2IN (in), 24 T4OUT (out)
text: T1; T2; T3; T4; R1; R2; R3

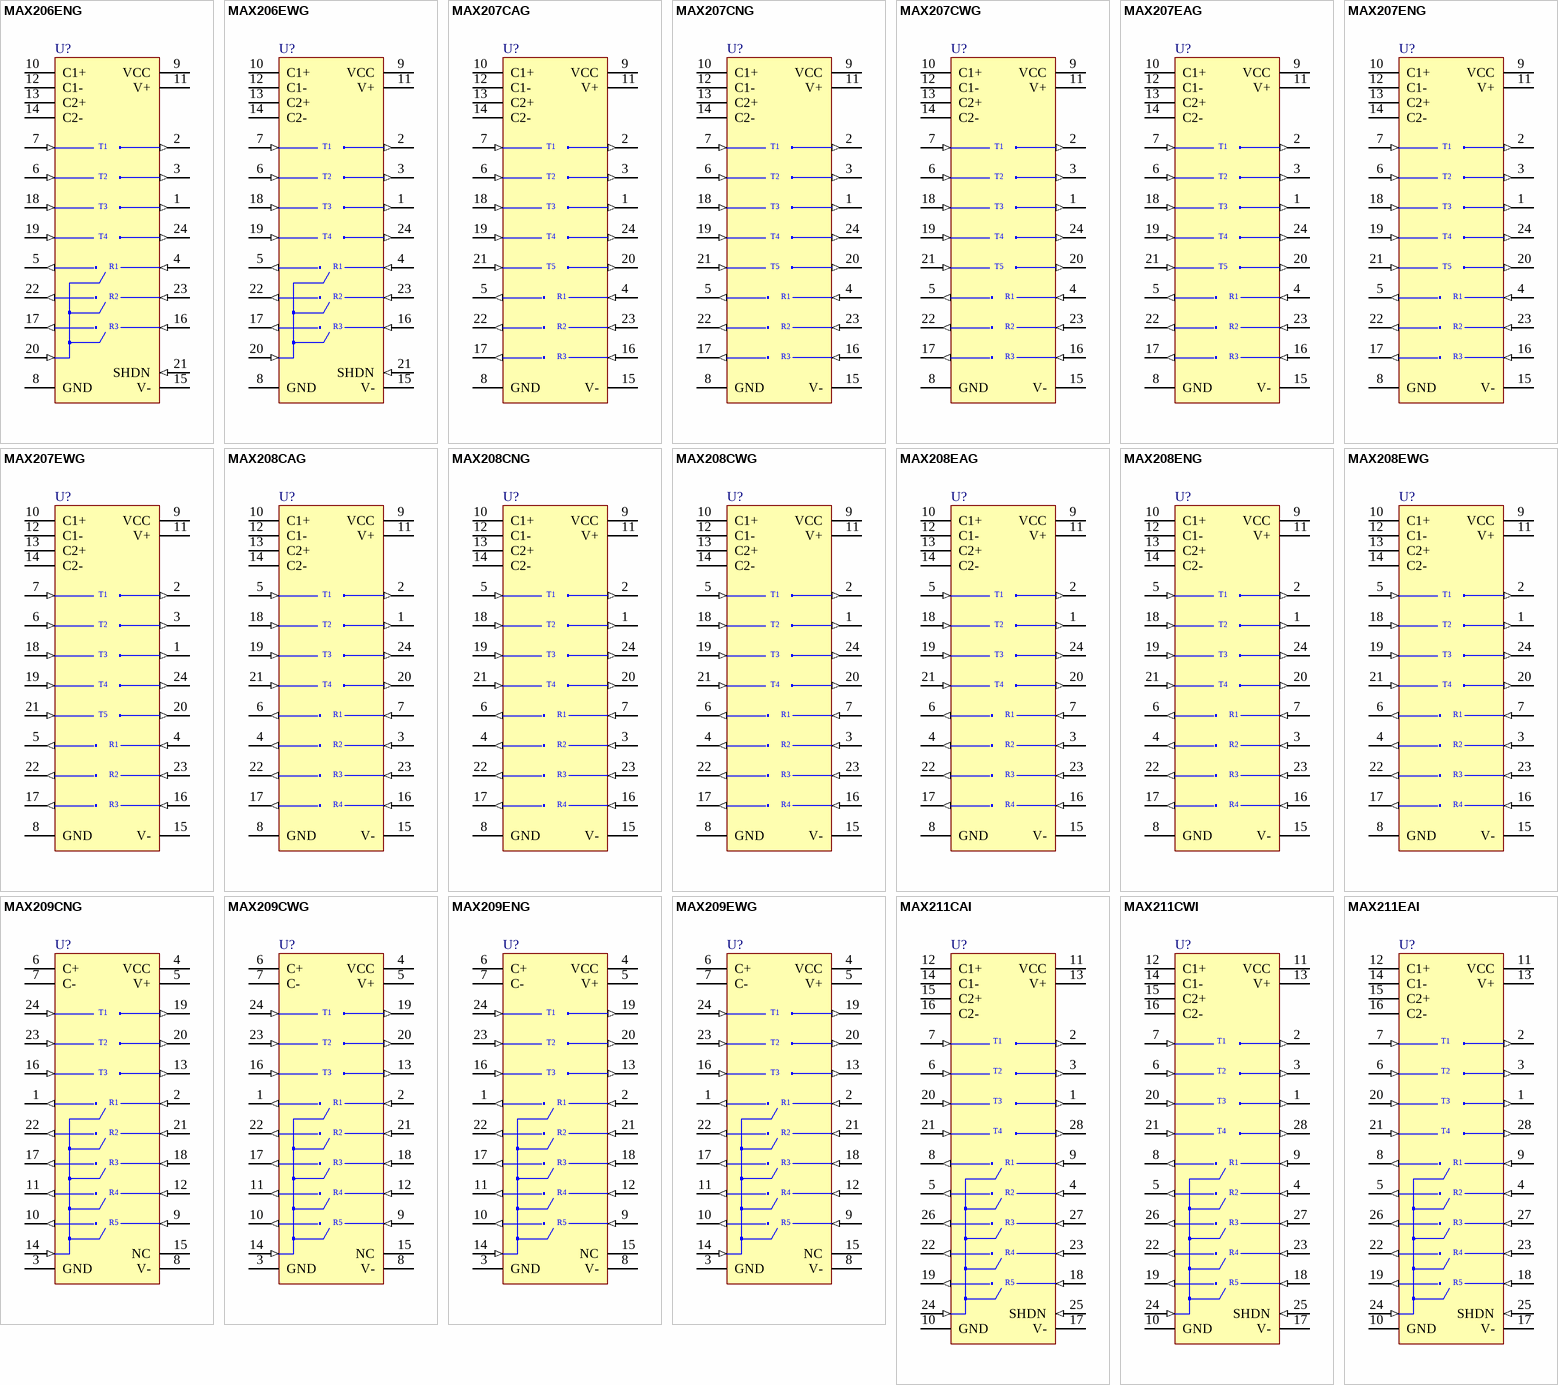
[diagram p1: symbols MAX206ENG to MAX211EAI]

## MAX206ENG
designator U?
+5V RS-232 Transceiver with 0.1µF External Capacitor; Published: 16-Jan-2001; LatestRevisionDate: 29-May-2009; LatestRevisionNote: Component Body Added.; DatasheetVersion: Dec-1996; PackageVersion: Aug-2000; PackageReference: NG24; Publisher: Altium Limited; PackageDescription: DIP, 24-Pin, Row Spacing 7.62 mm, Pitch 2.54 mm; Code_JEDEC: MS-001-AF; ComponentLink1Description: Manufacturer Link; ComponentLink1URL: http://www.maxim-ic.com/; ComponentLink2Description: Datasheet; ComponentLink2URL: http://pdfserv.maxim-ic.com/en/ds/MAX200-MAX213.pdf
footprint NG24 (DIP, 24-Leads, Row Spacing 7.62mm, Pitch 2.54mm, Body 30.55x7.24mm)
3D model NG24 (DIP, 24-Pin, Row Spacing 7.62 mm, Pitch 2.54 mm)
pins: 1 T3OUT (out), 2 T1OUT (out), 3 T2OUT (out), 4 R1IN (in), 5 R1OUT (out), 6 T2IN (in), 7 T1IN (in), 8 GND (power), 9 VCC (power), 10 C1+, 11 V+ (power), 12 C1-, 13 C2+, 14 C2-, 15 V- (power), 16 R3IN (in), 17 R3OUT (out), 18 T3IN (in), 19 T4IN (in), 20 ~{EN} (in), 21 SHDN (in), 22 R2OUT (out), 23 R2IN (in), 24 T4OUT (out)
text: T1; T2; T3; T4; R1; R2; R3

## MAX206EWG
designator U?
+5V RS-232 Transceiver with 0.1µF External Capacitor; Published: 16-Jan-2001; LatestRevisionDate: 13-Apr-2006; LatestRevisionNote: IPC-7351 Footprint Added.; DatasheetVersion: Dec-1996; PackageReference: WSO24; Publisher: Altium Limited; PackageDescription: 24-Pin Small Outline Integrated Circuit 1.27 mm Pitch; ComponentLink1Description: Manufacturer Link; ComponentLink1URL: http://www.maxim-ic.com/; ComponentLink2Description: Datasheet; ComponentLink2URL: http://pdfserv.maxim-ic.com/en/ds/MAX200-MAX213.pdf
footprint WSO24_N (SOIC, 24-Leads, Body 15.4x7.5mm, Pitch 1.27mm, IPC Medium Density)
footprint WSO24_L (SOIC, 24-Leads, Body 15.4x7.5mm, Pitch 1.27mm, IPC High Density)
footprint WSO24_M (SOIC, 24-Leads, Body 15.4x7.5mm, Pitch 1.27mm, IPC Low Density)
3D model WSO24 (24-Pin Small Outline Integrated Circuit 1.27 mm Pitch)
pins: 1 T3OUT (out), 2 T1OUT (out), 3 T2OUT (out), 4 R1IN (in), 5 R1OUT (out), 6 T2IN (in), 7 T1IN (in), 8 GND (power), 9 VCC (power), 10 C1+, 11 V+ (power), 12 C1-, 13 C2+, 14 C2-, 15 V- (power), 16 R3IN (in), 17 R3OUT (out), 18 T3IN (in), 19 T4IN (in), 20 ~{EN} (in), 21 SHDN (in), 22 R2OUT (out), 23 R2IN (in), 24 T4OUT (out)
text: T1; T2; T3; T4; R1; R2; R3

## MAX207CAG
designator U?
+5V RS-232 Transceiver with 0.1µF External Capacitor; Published: 16-Jan-2001; LatestRevisionDate: 29-May-2009; LatestRevisionNote: IPC-7351 Footprint Added.; DatasheetVersion: Dec-1996; PackageVersion: 1996; PackageReference: SSOP24; Publisher: Altium Limited; PackageDescription: 24-Pin Small Outline Package 0.65 mm Pitch; Code_JEDEC: MO-150-AG; Code_IPC: SOP65P780-24; ComponentLink1Description: Manufacturer Link; ComponentLink1URL: http://www.maxim-ic.com/; ComponentLink2Description: Datasheet; ComponentLink2URL: http://pdfserv.maxim-ic.com/en/ds/MAX200-MAX213.pdf
footprint SSOP24_N (SOP, 24-Leads, Body 8.2x5.3mm, Pitch 0.65mm, IPC Medium Density)
footprint SSOP24_L (SOP, 24-Leads, Body 8.2x5.3mm, Pitch 0.65mm, IPC High Density)
footprint SSOP24_M (SOP, 24-Leads, Body 8.2x5.3mm, Pitch 0.65mm, IPC Low Density)
3D model SSOP24 (24-Pin Small Outline Package 0.65 mm Pitch)
pins: 1 T3OUT (out), 2 T1OUT (out), 3 T2OUT (out), 4 R1IN (in), 5 R1OUT (out), 6 T2IN (in), 7 T1IN (in), 8 GND (power), 9 VCC (power), 10 C1+, 11 V+ (power), 12 C1-, 13 C2+, 14 C2-, 15 V- (power), 16 R3IN (in), 17 R3OUT (out), 18 T3IN (in), 19 T4IN (in), 20 T5OUT (out), 21 T5IN (in), 22 R2OUT (out), 23 R2IN (in), 24 T4OUT (out)
text: T1; T2; T3; T4; T5; R1; R2; R3

## MAX207CNG
designator U?
+5V RS-232 Transceiver with 0.1µF External Capacitor; Published: 16-Jan-2001; LatestRevisionDate: 29-May-2009; LatestRevisionNote: Component Body Added.; DatasheetVersion: Dec-1996; PackageVersion: Aug-2000; PackageReference: NG24; Publisher: Altium Limited; PackageDescription: DIP, 24-Pin, Row Spacing 7.62 mm, Pitch 2.54 mm; Code_JEDEC: MS-001-AF; ComponentLink1Description: Manufacturer Link; ComponentLink1URL: http://www.maxim-ic.com/; ComponentLink2Description: Datasheet; ComponentLink2URL: http://pdfserv.maxim-ic.com/en/ds/MAX200-MAX213.pdf
footprint NG24 (DIP, 24-Leads, Row Spacing 7.62mm, Pitch 2.54mm, Body 30.55x7.24mm)
3D model NG24 (DIP, 24-Pin, Row Spacing 7.62 mm, Pitch 2.54 mm)
pins: 1 T3OUT (out), 2 T1OUT (out), 3 T2OUT (out), 4 R1IN (in), 5 R1OUT (out), 6 T2IN (in), 7 T1IN (in), 8 GND (power), 9 VCC (power), 10 C1+, 11 V+ (power), 12 C1-, 13 C2+, 14 C2-, 15 V- (power), 16 R3IN (in), 17 R3OUT (out), 18 T3IN (in), 19 T4IN (in), 20 T5OUT (out), 21 T5IN (in), 22 R2OUT (out), 23 R2IN (in), 24 T4OUT (out)
text: T1; T2; T3; T4; T5; R1; R2; R3

## MAX207CWG
designator U?
+5V RS-232 Transceiver with 0.1µF External Capacitor; Published: 16-Jan-2001; LatestRevisionDate: 13-Apr-2006; LatestRevisionNote: IPC-7351 Footprint Added.; DatasheetVersion: Dec-1996; PackageReference: WSO24; Publisher: Altium Limited; PackageDescription: 24-Pin Small Outline Integrated Circuit 1.27 mm Pitch; ComponentLink1Description: Manufacturer Link; ComponentLink1URL: http://www.maxim-ic.com/; ComponentLink2Description: Datasheet; ComponentLink2URL: http://pdfserv.maxim-ic.com/en/ds/MAX200-MAX213.pdf
footprint WSO24_N (SOIC, 24-Leads, Body 15.4x7.5mm, Pitch 1.27mm, IPC Medium Density)
footprint WSO24_L (SOIC, 24-Leads, Body 15.4x7.5mm, Pitch 1.27mm, IPC High Density)
footprint WSO24_M (SOIC, 24-Leads, Body 15.4x7.5mm, Pitch 1.27mm, IPC Low Density)
3D model WSO24 (24-Pin Small Outline Integrated Circuit 1.27 mm Pitch)
pins: 1 T3OUT (out), 2 T1OUT (out), 3 T2OUT (out), 4 R1IN (in), 5 R1OUT (out), 6 T2IN (in), 7 T1IN (in), 8 GND (power), 9 VCC (power), 10 C1+, 11 V+ (power), 12 C1-, 13 C2+, 14 C2-, 15 V- (power), 16 R3IN (in), 17 R3OUT (out), 18 T3IN (in), 19 T4IN (in), 20 T5OUT (out), 21 T5IN (in), 22 R2OUT (out), 23 R2IN (in), 24 T4OUT (out)
text: T1; T2; T3; T4; T5; R1; R2; R3

## MAX207EAG
designator U?
+5V RS-232 Transceiver with 0.1µF External Capacitor; Published: 16-Jan-2001; LatestRevisionDate: 29-May-2009; LatestRevisionNote: IPC-7351 Footprint Added.; DatasheetVersion: Dec-1996; PackageVersion: 1996; PackageReference: SSOP24; Publisher: Altium Limited; PackageDescription: 24-Pin Small Outline Package 0.65 mm Pitch; Code_JEDEC: MO-150-AG; Code_IPC: SOP65P780-24; ComponentLink1Description: Manufacturer Link; ComponentLink1URL: http://www.maxim-ic.com/; ComponentLink2Description: Datasheet; ComponentLink2URL: http://pdfserv.maxim-ic.com/en/ds/MAX200-MAX213.pdf
footprint SSOP24_N (SOP, 24-Leads, Body 8.2x5.3mm, Pitch 0.65mm, IPC Medium Density)
footprint SSOP24_L (SOP, 24-Leads, Body 8.2x5.3mm, Pitch 0.65mm, IPC High Density)
footprint SSOP24_M (SOP, 24-Leads, Body 8.2x5.3mm, Pitch 0.65mm, IPC Low Density)
3D model SSOP24 (24-Pin Small Outline Package 0.65 mm Pitch)
pins: 1 T3OUT (out), 2 T1OUT (out), 3 T2OUT (out), 4 R1IN (in), 5 R1OUT (out), 6 T2IN (in), 7 T1IN (in), 8 GND (power), 9 VCC (power), 10 C1+, 11 V+ (power), 12 C1-, 13 C2+, 14 C2-, 15 V- (power), 16 R3IN (in), 17 R3OUT (out), 18 T3IN (in), 19 T4IN (in), 20 T5OUT (out), 21 T5IN (in), 22 R2OUT (out), 23 R2IN (in), 24 T4OUT (out)
text: T1; T2; T3; T4; T5; R1; R2; R3

## MAX207ENG
designator U?
+5V RS-232 Transceiver with 0.1µF External Capacitor; Published: 16-Jan-2001; LatestRevisionDate: 29-May-2009; LatestRevisionNote: Component Body Added.; DatasheetVersion: Dec-1996; PackageVersion: Aug-2000; PackageReference: NG24; Publisher: Altium Limited; PackageDescription: DIP, 24-Pin, Row Spacing 7.62 mm, Pitch 2.54 mm; Code_JEDEC: MS-001-AF; ComponentLink1Description: Manufacturer Link; ComponentLink1URL: http://www.maxim-ic.com/; ComponentLink2Description: Datasheet; ComponentLink2URL: http://pdfserv.maxim-ic.com/en/ds/MAX200-MAX213.pdf
footprint NG24 (DIP, 24-Leads, Row Spacing 7.62mm, Pitch 2.54mm, Body 30.55x7.24mm)
3D model NG24 (DIP, 24-Pin, Row Spacing 7.62 mm, Pitch 2.54 mm)
pins: 1 T3OUT (out), 2 T1OUT (out), 3 T2OUT (out), 4 R1IN (in), 5 R1OUT (out), 6 T2IN (in), 7 T1IN (in), 8 GND (power), 9 VCC (power), 10 C1+, 11 V+ (power), 12 C1-, 13 C2+, 14 C2-, 15 V- (power), 16 R3IN (in), 17 R3OUT (out), 18 T3IN (in), 19 T4IN (in), 20 T5OUT (out), 21 T5IN (in), 22 R2OUT (out), 23 R2IN (in), 24 T4OUT (out)
text: T1; T2; T3; T4; T5; R1; R2; R3

## MAX207EWG
designator U?
+5V RS-232 Transceiver with 0.1µF External Capacitor; Published: 16-Jan-2001; LatestRevisionDate: 13-Apr-2006; LatestRevisionNote: IPC-7351 Footprint Added.; DatasheetVersion: Dec-1996; PackageReference: WSO24; Publisher: Altium Limited; PackageDescription: 24-Pin Small Outline Integrated Circuit 1.27 mm Pitch; ComponentLink1Description: Manufacturer Link; ComponentLink1URL: http://www.maxim-ic.com/; ComponentLink2Description: Datasheet; ComponentLink2URL: http://pdfserv.maxim-ic.com/en/ds/MAX200-MAX213.pdf
footprint WSO24_N (SOIC, 24-Leads, Body 15.4x7.5mm, Pitch 1.27mm, IPC Medium Density)
footprint WSO24_L (SOIC, 24-Leads, Body 15.4x7.5mm, Pitch 1.27mm, IPC High Density)
footprint WSO24_M (SOIC, 24-Leads, Body 15.4x7.5mm, Pitch 1.27mm, IPC Low Density)
3D model WSO24 (24-Pin Small Outline Integrated Circuit 1.27 mm Pitch)
pins: 1 T3OUT (out), 2 T1OUT (out), 3 T2OUT (out), 4 R1IN (in), 5 R1OUT (out), 6 T2IN (in), 7 T1IN (in), 8 GND (power), 9 VCC (power), 10 C1+, 11 V+ (power), 12 C1-, 13 C2+, 14 C2-, 15 V- (power), 16 R3IN (in), 17 R3OUT (out), 18 T3IN (in), 19 T4IN (in), 20 T5OUT (out), 21 T5IN (in), 22 R2OUT (out), 23 R2IN (in), 24 T4OUT (out)
text: T1; T2; T3; T4; T5; R1; R2; R3

## MAX208CAG
designator U?
+5V RS-232 Transceiver with 0.1µF External Capacitor; Published: 16-Jan-2001; LatestRevisionDate: 29-May-2009; LatestRevisionNote: IPC-7351 Footprint Added.; DatasheetVersion: Dec-1996; PackageVersion: 1996; PackageReference: SSOP24; Publisher: Altium Limited; PackageDescription: 24-Pin Small Outline Package 0.65 mm Pitch; Code_JEDEC: MO-150-AG; Code_IPC: SOP65P780-24; ComponentLink1Description: Manufacturer Link; ComponentLink1URL: http://www.maxim-ic.com/; ComponentLink2Description: Datasheet; ComponentLink2URL: http://pdfserv.maxim-ic.com/en/ds/MAX200-MAX213.pdf
footprint SSOP24_N (SOP, 24-Leads, Body 8.2x5.3mm, Pitch 0.65mm, IPC Medium Density)
footprint SSOP24_L (SOP, 24-Leads, Body 8.2x5.3mm, Pitch 0.65mm, IPC High Density)
footprint SSOP24_M (SOP, 24-Leads, Body 8.2x5.3mm, Pitch 0.65mm, IPC Low Density)
3D model SSOP24 (24-Pin Small Outline Package 0.65 mm Pitch)
pins: 1 T2OUT (out), 2 T1OUT (out), 3 R2IN (in), 4 R2OUT (out), 5 T1IN (in), 6 R1OUT (out), 7 R1IN (in), 8 GND (power), 9 VCC (power), 10 C1+, 11 V+ (power), 12 C1-, 13 C2+, 14 C2-, 15 V- (power), 16 R4IN (in), 17 R4OUT (out), 18 T2IN (in), 19 T3IN (in), 20 T4OUT (out), 21 T4IN (in), 22 R3OUT (out), 23 R3IN (in), 24 T3OUT (out)
text: T1; T2; T3; T4; R1; R2; R3; R4

## MAX208CNG
designator U?
+5V RS-232 Transceiver with 0.1µF External Capacitor; Published: 16-Jan-2001; LatestRevisionDate: 29-May-2009; LatestRevisionNote: Component Body Added.; DatasheetVersion: Dec-1996; PackageVersion: Aug-2000; PackageReference: NG24; Publisher: Altium Limited; PackageDescription: DIP, 24-Pin, Row Spacing 7.62 mm, Pitch 2.54 mm; Code_JEDEC: MS-001-AF; ComponentLink1Description: Manufacturer Link; ComponentLink1URL: http://www.maxim-ic.com/; ComponentLink2Description: Datasheet; ComponentLink2URL: http://pdfserv.maxim-ic.com/en/ds/MAX200-MAX213.pdf
footprint NG24 (DIP, 24-Leads, Row Spacing 7.62mm, Pitch 2.54mm, Body 30.55x7.24mm)
3D model NG24 (DIP, 24-Pin, Row Spacing 7.62 mm, Pitch 2.54 mm)
pins: 1 T2OUT (out), 2 T1OUT (out), 3 R2IN (in), 4 R2OUT (out), 5 T1IN (in), 6 R1OUT (out), 7 R1IN (in), 8 GND (power), 9 VCC (power), 10 C1+, 11 V+ (power), 12 C1-, 13 C2+, 14 C2-, 15 V- (power), 16 R4IN (in), 17 R4OUT (out), 18 T2IN (in), 19 T3IN (in), 20 T4OUT (out), 21 T4IN (in), 22 R3OUT (out), 23 R3IN (in), 24 T3OUT (out)
text: T1; T2; T3; T4; R1; R2; R3; R4

## MAX208CWG
designator U?
+5V RS-232 Transceiver with 0.1µF External Capacitor; Published: 16-Jan-2001; LatestRevisionDate: 13-Apr-2006; LatestRevisionNote: IPC-7351 Footprint Added.; DatasheetVersion: Dec-1996; PackageReference: WSO24; Publisher: Altium Limited; PackageDescription: 24-Pin Small Outline Integrated Circuit 1.27 mm Pitch; ComponentLink1Description: Manufacturer Link; ComponentLink1URL: http://www.maxim-ic.com/; ComponentLink2Description: Datasheet; ComponentLink2URL: http://pdfserv.maxim-ic.com/en/ds/MAX200-MAX213.pdf
footprint WSO24_N (SOIC, 24-Leads, Body 15.4x7.5mm, Pitch 1.27mm, IPC Medium Density)
footprint WSO24_L (SOIC, 24-Leads, Body 15.4x7.5mm, Pitch 1.27mm, IPC High Density)
footprint WSO24_M (SOIC, 24-Leads, Body 15.4x7.5mm, Pitch 1.27mm, IPC Low Density)
3D model WSO24 (24-Pin Small Outline Integrated Circuit 1.27 mm Pitch)
pins: 1 T2OUT (out), 2 T1OUT (out), 3 R2IN (in), 4 R2OUT (out), 5 T1IN (in), 6 R1OUT (out), 7 R1IN (in), 8 GND (power), 9 VCC (power), 10 C1+, 11 V+ (power), 12 C1-, 13 C2+, 14 C2-, 15 V- (power), 16 R4IN (in), 17 R4OUT (out), 18 T2IN (in), 19 T3IN (in), 20 T4OUT (out), 21 T4IN (in), 22 R3OUT (out), 23 R3IN (in), 24 T3OUT (out)
text: T1; T2; T3; T4; R1; R2; R3; R4

## MAX208EAG
designator U?
+5V RS-232 Transceiver with 0.1µF External Capacitor; Published: 16-Jan-2001; LatestRevisionDate: 29-May-2009; LatestRevisionNote: IPC-7351 Footprint Added.; DatasheetVersion: Dec-1996; PackageVersion: 1996; PackageReference: SSOP24; Publisher: Altium Limited; PackageDescription: 24-Pin Small Outline Package 0.65 mm Pitch; Code_JEDEC: MO-150-AG; Code_IPC: SOP65P780-24; ComponentLink1Description: Manufacturer Link; ComponentLink1URL: http://www.maxim-ic.com/; ComponentLink2Description: Datasheet; ComponentLink2URL: http://pdfserv.maxim-ic.com/en/ds/MAX200-MAX213.pdf
footprint SSOP24_N (SOP, 24-Leads, Body 8.2x5.3mm, Pitch 0.65mm, IPC Medium Density)
footprint SSOP24_L (SOP, 24-Leads, Body 8.2x5.3mm, Pitch 0.65mm, IPC High Density)
footprint SSOP24_M (SOP, 24-Leads, Body 8.2x5.3mm, Pitch 0.65mm, IPC Low Density)
3D model SSOP24 (24-Pin Small Outline Package 0.65 mm Pitch)
pins: 1 T2OUT (out), 2 T1OUT (out), 3 R2IN (in), 4 R2OUT (out), 5 T1IN (in), 6 R1OUT (out), 7 R1IN (in), 8 GND (power), 9 VCC (power), 10 C1+, 11 V+ (power), 12 C1-, 13 C2+, 14 C2-, 15 V- (power), 16 R4IN (in), 17 R4OUT (out), 18 T2IN (in), 19 T3IN (in), 20 T4OUT (out), 21 T4IN (in), 22 R3OUT (out), 23 R3IN (in), 24 T3OUT (out)
text: T1; T2; T3; T4; R1; R2; R3; R4

## MAX208ENG
designator U?
+5V RS-232 Transceiver with 0.1µF External Capacitor; Published: 16-Jan-2001; LatestRevisionDate: 29-May-2009; LatestRevisionNote: Component Body Added.; DatasheetVersion: Dec-1996; PackageVersion: Aug-2000; PackageReference: NG24; Publisher: Altium Limited; PackageDescription: DIP, 24-Pin, Row Spacing 7.62 mm, Pitch 2.54 mm; Code_JEDEC: MS-001-AF; ComponentLink1Description: Manufacturer Link; ComponentLink1URL: http://www.maxim-ic.com/; ComponentLink2Description: Datasheet; ComponentLink2URL: http://pdfserv.maxim-ic.com/en/ds/MAX200-MAX213.pdf
footprint NG24 (DIP, 24-Leads, Row Spacing 7.62mm, Pitch 2.54mm, Body 30.55x7.24mm)
3D model NG24 (DIP, 24-Pin, Row Spacing 7.62 mm, Pitch 2.54 mm)
pins: 1 T2OUT (out), 2 T1OUT (out), 3 R2IN (in), 4 R2OUT (out), 5 T1IN (in), 6 R1OUT (out), 7 R1IN (in), 8 GND (power), 9 VCC (power), 10 C1+, 11 V+ (power), 12 C1-, 13 C2+, 14 C2-, 15 V- (power), 16 R4IN (in), 17 R4OUT (out), 18 T2IN (in), 19 T3IN (in), 20 T4OUT (out), 21 T4IN (in), 22 R3OUT (out), 23 R3IN (in), 24 T3OUT (out)
text: T1; T2; T3; T4; R1; R2; R3; R4

## MAX208EWG
designator U?
+5V RS-232 Transceiver with 0.1µF External Capacitor; Published: 16-Jan-2001; LatestRevisionDate: 13-Apr-2006; LatestRevisionNote: IPC-7351 Footprint Added.; DatasheetVersion: Dec-1996; PackageReference: WSO24; Publisher: Altium Limited; PackageDescription: 24-Pin Small Outline Integrated Circuit 1.27 mm Pitch; ComponentLink1Description: Manufacturer Link; ComponentLink1URL: http://www.maxim-ic.com/; ComponentLink2Description: Datasheet; ComponentLink2URL: http://pdfserv.maxim-ic.com/en/ds/MAX200-MAX213.pdf
footprint WSO24_N (SOIC, 24-Leads, Body 15.4x7.5mm, Pitch 1.27mm, IPC Medium Density)
footprint WSO24_L (SOIC, 24-Leads, Body 15.4x7.5mm, Pitch 1.27mm, IPC High Density)
footprint WSO24_M (SOIC, 24-Leads, Body 15.4x7.5mm, Pitch 1.27mm, IPC Low Density)
3D model WSO24 (24-Pin Small Outline Integrated Circuit 1.27 mm Pitch)
pins: 1 T2OUT (out), 2 T1OUT (out), 3 R2IN (in), 4 R2OUT (out), 5 T1IN (in), 6 R1OUT (out), 7 R1IN (in), 8 GND (power), 9 VCC (power), 10 C1+, 11 V+ (power), 12 C1-, 13 C2+, 14 C2-, 15 V- (power), 16 R4IN (in), 17 R4OUT (out), 18 T2IN (in), 19 T3IN (in), 20 T4OUT (out), 21 T4IN (in), 22 R3OUT (out), 23 R3IN (in), 24 T3OUT (out)
text: T1; T2; T3; T4; R1; R2; R3; R4

## MAX209CNG
designator U?
+5V RS-232 Transceiver with 0.1µF External Capacitor; Published: 16-Jan-2001; LatestRevisionDate: 29-May-2009; LatestRevisionNote: Component Body Added.; DatasheetVersion: Dec-1996; PackageVersion: Aug-2000; PackageReference: NG24; Publisher: Altium Limited; PackageDescription: DIP, 24-Pin, Row Spacing 7.62 mm, Pitch 2.54 mm; Code_JEDEC: MS-001-AF; ComponentLink1Description: Manufacturer Link; ComponentLink1URL: http://www.maxim-ic.com/; ComponentLink2Description: Datasheet; ComponentLink2URL: http://pdfserv.maxim-ic.com/en/ds/MAX200-MAX213.pdf
footprint NG24 (DIP, 24-Leads, Row Spacing 7.62mm, Pitch 2.54mm, Body 30.55x7.24mm)
3D model NG24 (DIP, 24-Pin, Row Spacing 7.62 mm, Pitch 2.54 mm)
pins: 1 R1OUT (out), 2 R1IN (in), 3 GND (power), 4 VCC (power), 5 V+ (power), 6 C+, 7 C-, 8 V- (power), 9 R5IN (in), 10 R5OUT (out), 11 R4OUT (out), 12 R4IN (in), 13 T3OUT (out), 14 ~{EN} (in), 15 NC, 16 T3IN (in), 17 R3OUT (out), 18 R3IN (in), 19 T1OUT (out), 20 T2OUT (out), 21 R2IN (in), 22 R2OUT (out), 23 T2IN (in), 24 T1IN (in)
text: T1; T2; T3; R1; R2; R3; R4; R5

## MAX209CWG
designator U?
+5V RS-232 Transceiver with 0.1µF External Capacitor; Published: 16-Jan-2001; LatestRevisionDate: 13-Apr-2006; LatestRevisionNote: IPC-7351 Footprint Added.; DatasheetVersion: Dec-1996; PackageReference: WSO24; Publisher: Altium Limited; PackageDescription: 24-Pin Small Outline Integrated Circuit 1.27 mm Pitch; ComponentLink1Description: Manufacturer Link; ComponentLink1URL: http://www.maxim-ic.com/; ComponentLink2Description: Datasheet; ComponentLink2URL: http://pdfserv.maxim-ic.com/en/ds/MAX200-MAX213.pdf
footprint WSO24_N (SOIC, 24-Leads, Body 15.4x7.5mm, Pitch 1.27mm, IPC Medium Density)
footprint WSO24_L (SOIC, 24-Leads, Body 15.4x7.5mm, Pitch 1.27mm, IPC High Density)
footprint WSO24_M (SOIC, 24-Leads, Body 15.4x7.5mm, Pitch 1.27mm, IPC Low Density)
3D model WSO24 (24-Pin Small Outline Integrated Circuit 1.27 mm Pitch)
pins: 1 R1OUT (out), 2 R1IN (in), 3 GND (power), 4 VCC (power), 5 V+ (power), 6 C+, 7 C-, 8 V- (power), 9 R5IN (in), 10 R5OUT (out), 11 R4OUT (out), 12 R4IN (in), 13 T3OUT (out), 14 ~{EN} (in), 15 NC, 16 T3IN (in), 17 R3OUT (out), 18 R3IN (in), 19 T1OUT (out), 20 T2OUT (out), 21 R2IN (in), 22 R2OUT (out), 23 T2IN (in), 24 T1IN (in)
text: T1; T2; T3; R1; R2; R3; R4; R5

## MAX209ENG
designator U?
+5V RS-232 Transceiver with 0.1µF External Capacitor; Published: 16-Jan-2001; LatestRevisionDate: 29-May-2009; LatestRevisionNote: Component Body Added.; DatasheetVersion: Dec-1996; PackageVersion: Aug-2000; PackageReference: NG24; Publisher: Altium Limited; PackageDescription: DIP, 24-Pin, Row Spacing 7.62 mm, Pitch 2.54 mm; Code_JEDEC: MS-001-AF; ComponentLink1Description: Manufacturer Link; ComponentLink1URL: http://www.maxim-ic.com/; ComponentLink2Description: Datasheet; ComponentLink2URL: http://pdfserv.maxim-ic.com/en/ds/MAX200-MAX213.pdf
footprint NG24 (DIP, 24-Leads, Row Spacing 7.62mm, Pitch 2.54mm, Body 30.55x7.24mm)
3D model NG24 (DIP, 24-Pin, Row Spacing 7.62 mm, Pitch 2.54 mm)
pins: 1 R1OUT (out), 2 R1IN (in), 3 GND (power), 4 VCC (power), 5 V+ (power), 6 C+, 7 C-, 8 V- (power), 9 R5IN (in), 10 R5OUT (out), 11 R4OUT (out), 12 R4IN (in), 13 T3OUT (out), 14 ~{EN} (in), 15 NC, 16 T3IN (in), 17 R3OUT (out), 18 R3IN (in), 19 T1OUT (out), 20 T2OUT (out), 21 R2IN (in), 22 R2OUT (out), 23 T2IN (in), 24 T1IN (in)
text: T1; T2; T3; R1; R2; R3; R4; R5